# EAGLE library part ADS1256 (library ICs)
Analogue to Digital Converter, 24 bit, 30 kSPS, Single, 4.75 V, 5.25 V, SSOP
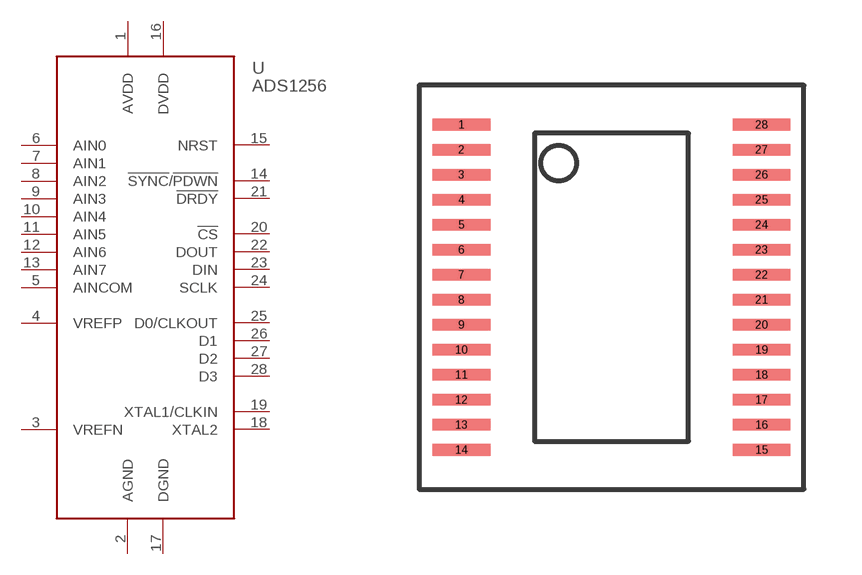
[diagram p177: symbol with the pads of SSOP28; footprint SSOP28]

Designator prefix U

## ADS1256 (FARNELL: 1470337; HEIGHT: 2; PRICE_PER: 12.98; VALUE: ADS1256)  [SSOP28]
1  AVDD
2  AGND
3  VREFN
4  VREFP
5  AINCOM
6  AIN0
7  AIN1
8  AIN2
9  AIN3
10  AIN4
11  AIN5
12  AIN6
13  AIN7
14  !SYNC!/!PDWN
15  NRST
16  DVDD
17  DGND
18  XTAL2
19  XTAL1/CLKIN
20  !CS
21  !DRDY
22  DOUT
23  DIN
24  SCLK
25  D0/CLKOUT
26  D1
27  D2
28  D3

## Footprint SSOP28 (pad centres in mm)
smd 1.5 x 0.3: 1 -3.9,4.225; 2 -3.9,3.575; 3 -3.9,2.925; 4 -3.9,2.275; 5 -3.9,1.625; 6 -3.9,0.975; 7 -3.9,0.325; 8 -3.9,-0.325; 9 -3.9,-0.975; 10 -3.9,-1.625; 11 -3.9,-2.275; 12 -3.9,-2.925; 13 -3.9,-3.575; 14 -3.9,-4.225; 15 3.9,-4.225; 16 3.9,-3.575; 17 3.9,-2.925; 18 3.9,-2.275; 19 3.9,-1.625; 20 3.9,-0.975; 21 3.9,-0.325; 22 3.9,0.325; 23 3.9,0.975; 24 3.9,1.625; 25 3.9,2.275; 26 3.9,2.925; 27 3.9,3.575; 28 3.9,4.225